# Altium footprint library SOP65P780X200-20N.PcbLib: 1 footprints
Each footprint in its own frame and in the unit in brackets; x right, y up, seen from the top. Pads: shape width x height; smd on the part's side, far side on the other; paste and mask are expansions set on the pad; w line width, h text height; cw(c..) or ccw(c..) is an arc to the next point about the centre after c.
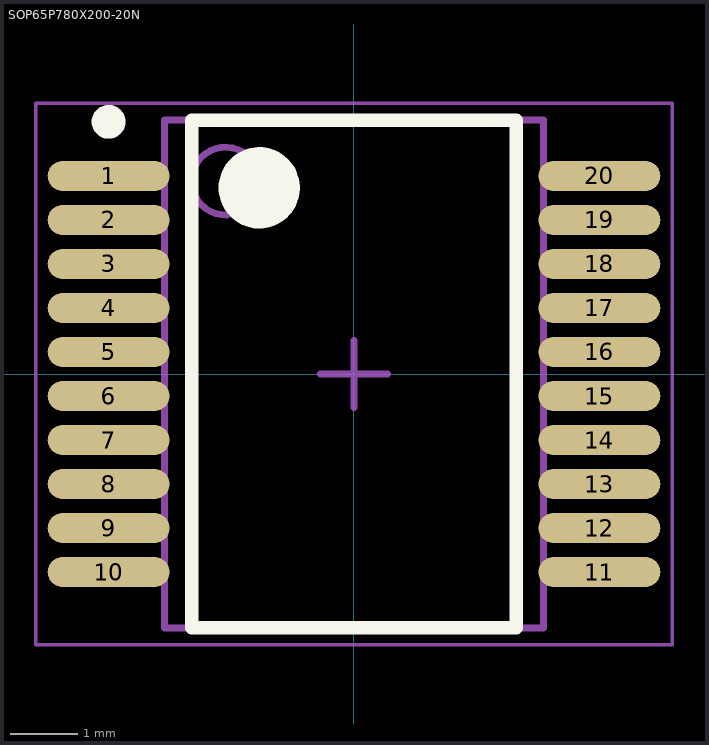
[diagram p0: the footprint, top view; thin cyan lines are the x and y axes]

## SOP65P780X200-20N [mm] "SOP, 20-Leads, Body 7.20x5.30mm, Pitch 0.65mm, IPC Medium Density"
height 2
pads (20):
  oval 1.8x0.45 smd mask+0.05: 1(-3.625,2.925) 2(-3.625,2.275) 3(-3.625,1.625) 4(-3.625,0.975) 5(-3.625,0.325) 6(-3.625,-0.325) 7(-3.625,-0.975) 8(-3.625,-1.625) 9(-3.625,-2.275) 10(-3.625,-2.925) 11(3.625,-2.925) 12(3.625,-2.275) 13(3.625,-1.625) 14(3.625,-0.975) 15(3.625,-0.325) 16(3.625,0.325) 17(3.625,0.975) 18(3.625,1.625) 19(3.625,2.275) 20(3.625,2.925)
Top Overlay:
  circle w0.25: c-3.625,3.725 r0.125
  circle w0.6: c-1.4,2.75 r0.3
  lines w0.2: -2.4,-3.75 -2.4,3.75 2.4,3.75 2.4,-3.75 -2.4,-3.75
Top Assembly:
  circle w0.1: c-1.9,2.85 r0.5
  lines w0.1: -2.8,-3.75 -2.8,3.75 2.8,3.75 2.8,-3.75 -2.8,-3.75
Top Courtyard:
  lines w0.05: -4.7,-4 -4.7,4 4.7,4 4.7,-4 -4.7,-4
  lines w0.1: -0.5,0 0.5,0 ; 0,-0.5 0,0.5
3D body "SOP65P780X200-20N.step": height 2, standoff 0, extent -3.9,-3.75 3.9,3.75